# Altium schematic symbol library module.SchLib: 20 symbols
Pins are listed as number, name and electrical type; pins without a type are passive.

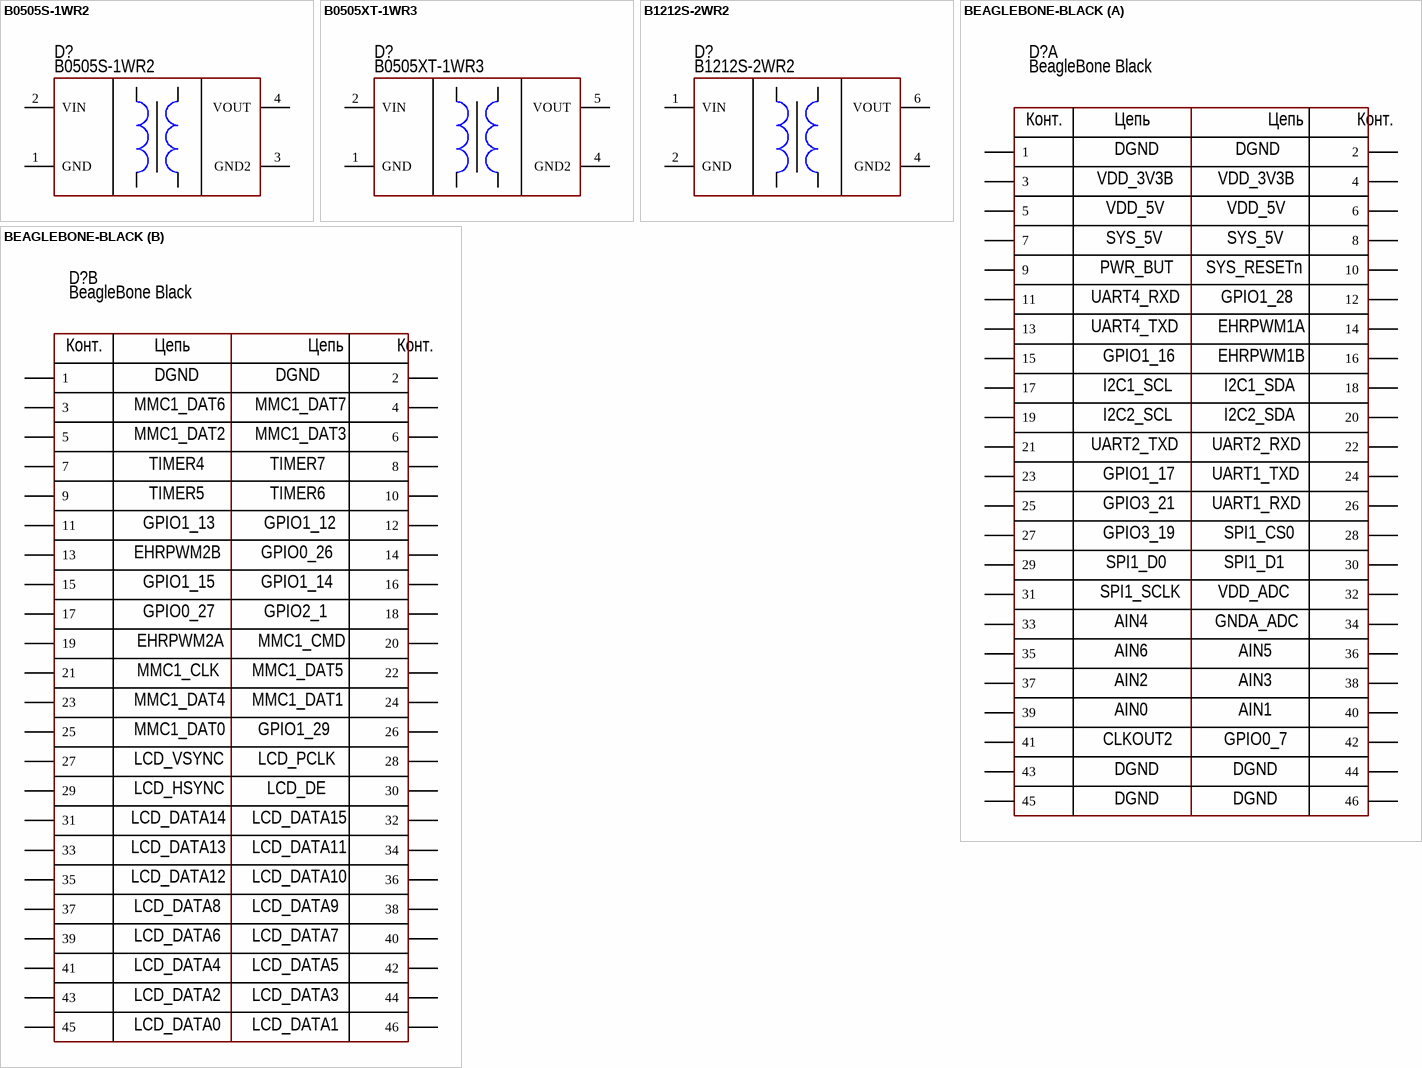
[diagram p0: symbols B0505S-1WR2 to BEAGLEBONE-BLACK]

## B0505S-1WR2
designator D?  PartNumber: B0505S-1WR2
DC/DC converter; Manufacturer: Mornsun; ValueManufacturerPartNumber: DC/DC converter, isolator, 5V 200mA, -40...+105°C, SIP-4; OutputType: isolator; OutputVoltage: 5V 200mA; HelpURL: https://www.chipdip.ru/product/b0505s-1wr2; Package: SIP-4; ComponentType: DC/DC converter; Temperature: -40...+105°C
footprint MOD: SIP-4 (B0505S-1W)
pins: 1 GND (power), 2 VIN (power), 3 GND2 (power), 4 VOUT (power)

## B0505XT-1WR3
designator D?  PartNumber: B0505XT-1WR3
DC/DC converter; Manufacturer: Mornsun; ValueManufacturerPartNumber: DC/DC converter, isolator, 5V 200mA, -40...+105°C, SMD-8; OutputType: isolator; OutputVoltage: 5V 200mA; HelpURL: https://www.mornsun-power.com/html/products/35/0.25-3w-smd.html; Package: SMD-8; ComponentType: DC/DC converter; Temperature: -40...+105°C
footprint MOD: B0505XT-1WR3
pins: 1 GND (power), 2 VIN (power), 4 GND2 (power), 5 VOUT (power)

## B1212S-2WR2
designator D?  PartNumber: B1212S-2WR2
DC/DC converter; Manufacturer: Mornsun; ValueManufacturerPartNumber: DC/DC converter, isolator, 12V 167mA, -40...+105°C, SIP-7; OutputType: isolator; OutputVoltage: 12V 167mA; HelpURL: https://www.compel.ru/infosheet/MORNSUN/B1212S-2WR2; Package: SIP-7; ComponentType: DC/DC converter; Temperature: -40...+105°C
footprint MOD: SIP-7 (B1212S-2W)
pins: 1 VIN (power), 2 GND (power), 4 GND2 (power), 6 VOUT (power)

## BEAGLEBONE-BLACK
designator D?  PartNumber: BeagleBone Black
Single Board Computers; Manufacturer: BeagleBoard; ValueManufacturerPartNumber: Single Board Computers, ARM® Cortex®-A8, SD card, UART, USB, CAN, ADC, PWM, I2C, SPI, GPIO, eCAP, eQEP, -40...+90°C; Core: ARM® Cortex®-A8; TypeInterface: SD card, UART, USB, CAN, ADC, PWM, I2C, SPI, GPIO, eCAP, eQEP; HelpURL: https://www.digikey.com/en/products/detail/beagleboard-by-seeed-studio/102110420/12719590; ComponentType: Single Board Computers; Temperature: -40...+90°C
footprint BEAGLEBONE-BLACK-DIRECT-LP
footprint BEAGLEBONE-BLACK-INVERTED-LP
footprint BEAGLEBONE-BLACK-INVERTED-10mm
part A pins: 1-1 1, 1-2 2, 1-3 3, 1-4 4, 1-5 5, 1-6 6, 1-7 7, 1-8 8, 1-9 9, 1-10 10, 1-11 11, 1-12 12, 1-13 13, 1-14 14, 1-15 15, 1-16 16, 1-17 17, 1-18 18, 1-19 19, 1-20 20, 1-21 21, 1-22 22, 1-23 23, 1-24 24, 1-25 25, 1-26 26, 1-27 27, 1-28 28, 1-29 29, 1-30 30, 1-31 31, 1-32 32, 1-33 33, 1-34 34, 1-35 35, 1-36 36, 1-37 37, 1-38 38, 1-39 39, 1-40 40, 1-41 41, 1-42 42, 1-43 43, 1-44 44, 1-45 45, 1-46 46
part B pins: 2-1 1, 2-2 2, 2-3 3, 2-4 4, 2-5 5, 2-6 6, 2-7 7, 2-8 8, 2-9 9, 2-10 10, 2-11 11, 2-12 12, 2-13 13, 2-14 14, 2-15 15, 2-16 16, 2-17 17, 2-18 18, 2-19 19, 2-20 20, 2-21 21, 2-22 22, 2-23 23, 2-24 24, 2-25 25, 2-26 26, 2-27 27, 2-28 28, 2-29 29, 2-30 30, 2-31 31, 2-32 32, 2-33 33, 2-34 34, 2-35 35, 2-36 36, 2-37 37, 2-38 38, 2-39 39, 2-40 40, 2-41 41, 2-42 42, 2-43 43, 2-44 44, 2-45 45, 2-46 46
part A text: Конт.; Цепь; DGND; VDD_3V3B; VDD_5V; SYS_5V; PWR_BUT; SYS_RESETn; UART4_RXD; GPIO1_28; UART4_TXD; EHRPWM1A; GPIO1_16; EHRPWM1B; I2C1_SCL; I2C1_SDA; I2C2_SCL; I2C2_SDA; UART2_TXD; UART2_RXD; GPIO1_17; UART1_TXD; GPIO3_21; UART1_RXD; GPIO3_19; SPI1_CS0; SPI1_D0; SPI1_D1; SPI1_SCLK; VDD_ADC; AIN4; GNDA_ADC; AIN6; AIN5; AIN2; AIN3; AIN0; AIN1; CLKOUT2; GPIO0_7
part B text: Конт.; Цепь; DGND; MMC1_DAT6; MMC1_DAT7; MMC1_DAT2; MMC1_DAT3; TIMER4; TIMER7; TIMER5; TIMER6; GPIO1_13; GPIO1_12; EHRPWM2B; GPIO0_26; GPIO1_15; GPIO1_14; GPIO0_27; GPIO2_1; EHRPWM2A; MMC1_CMD; MMC1_CLK; MMC1_DAT5; MMC1_DAT4; MMC1_DAT1; MMC1_DAT0; GPIO1_29; LCD_VSYNC; LCD_PCLK; LCD_HSYNC; LCD_DE; LCD_DATA14; LCD_DATA15; LCD_DATA13; LCD_DATA11; LCD_DATA12; LCD_DATA10; LCD_DATA8; LCD_DATA9; LCD_DATA6; LCD_DATA7; LCD_DATA4; LCD_DATA5; LCD_DATA2; LCD_DATA3; LCD_DATA0; LCD_DATA1

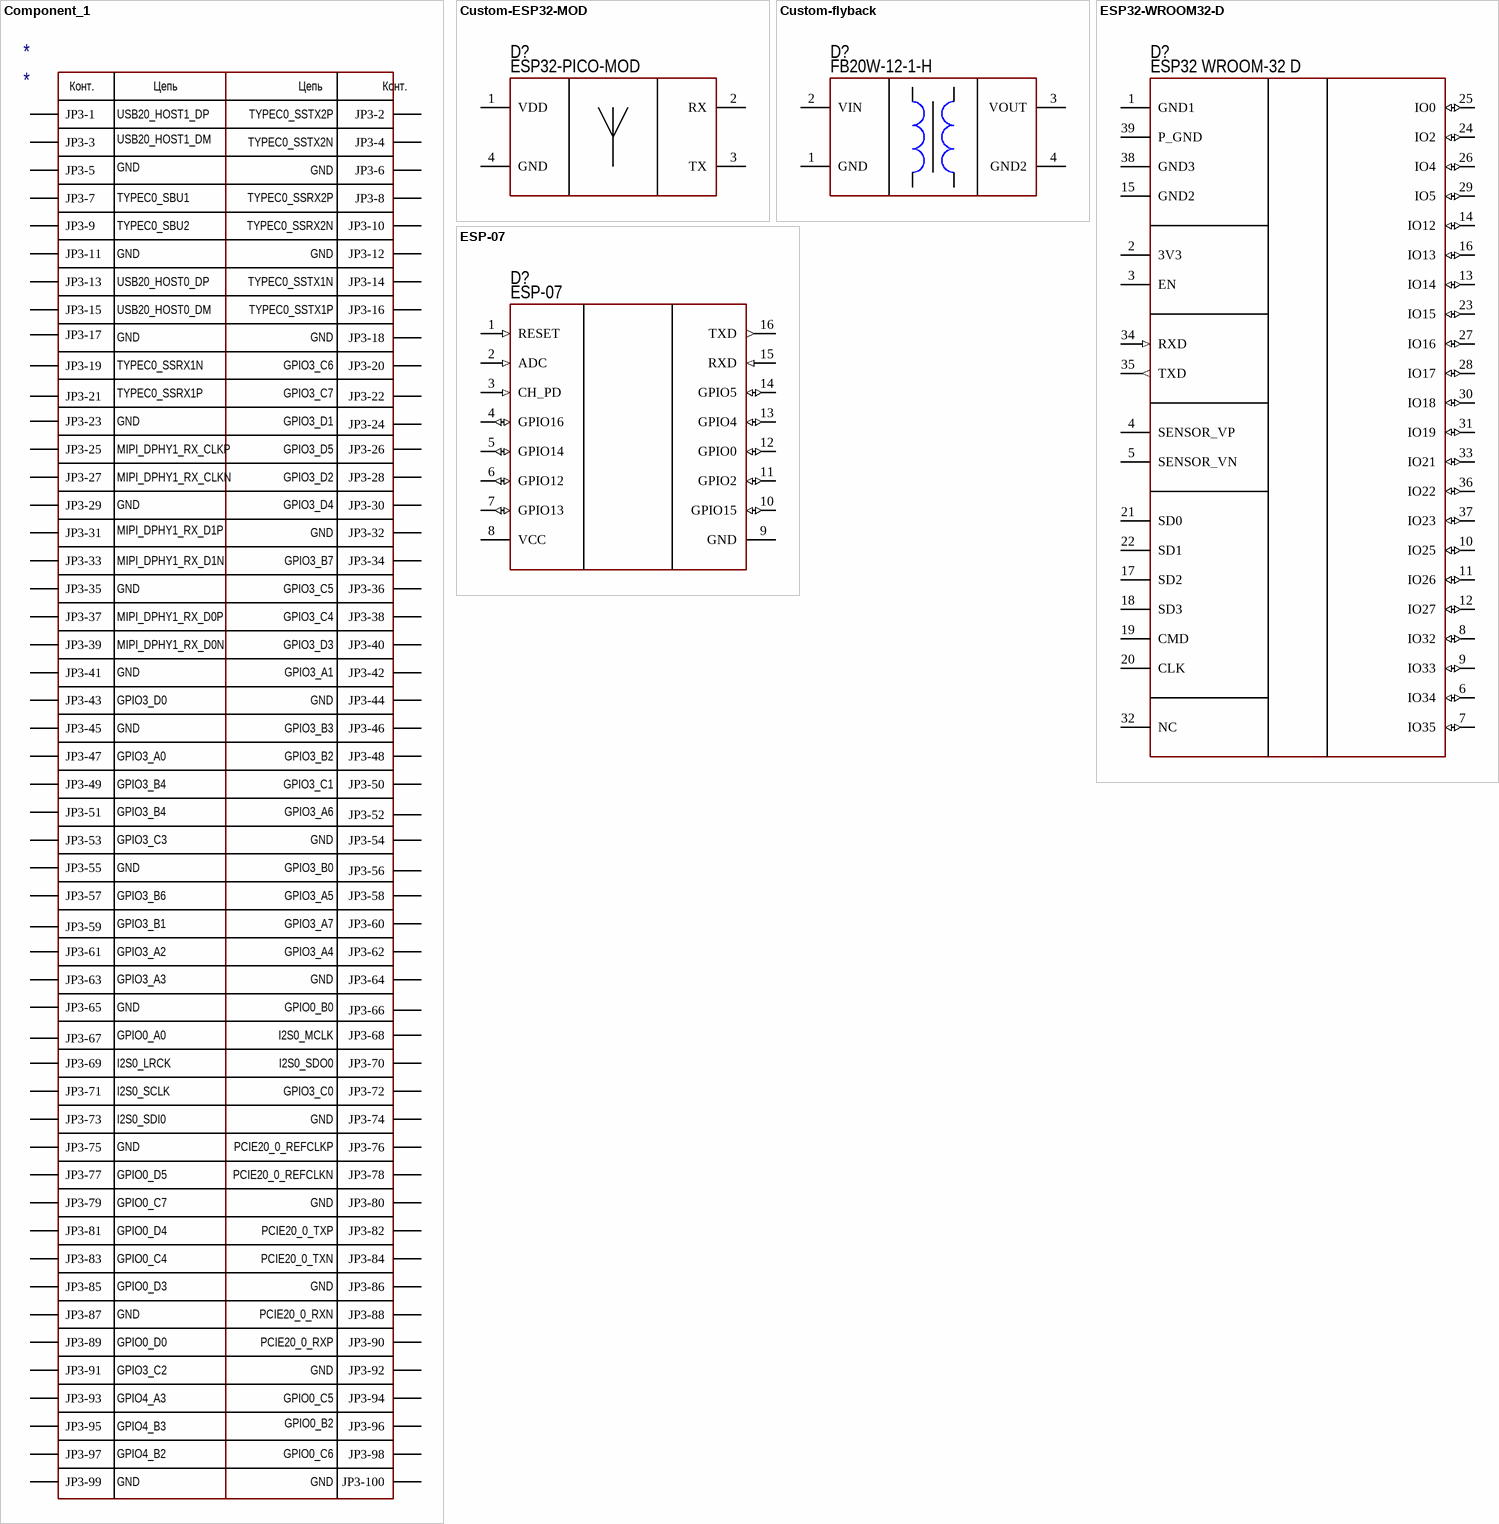
[diagram p1: symbols Component_1 to ESP-07]

## Component_1
designator *
pins: JP3-1, JP3-2, JP3-3, JP3-4, JP3-5, JP3-6, JP3-7, JP3-8, JP3-9, JP3-10, JP3-11, JP3-12, JP3-13, JP3-14, JP3-15, JP3-16, JP3-17, JP3-18, JP3-19, JP3-20, JP3-21, JP3-22, JP3-23, JP3-24, JP3-25, JP3-26, JP3-27, JP3-28, JP3-29, JP3-30, JP3-31, JP3-32, JP3-33, JP3-34, JP3-35, JP3-36, JP3-37, JP3-38, JP3-39, JP3-40, JP3-41, JP3-42, JP3-43, JP3-44, JP3-45, JP3-46, JP3-47, JP3-48, JP3-49, JP3-50, JP3-51, JP3-52, JP3-53, JP3-54, JP3-55, JP3-56, JP3-57, JP3-58, JP3-59, JP3-60, JP3-61, JP3-62, JP3-63, JP3-64, JP3-65, JP3-66, JP3-67, JP3-68, JP3-69, JP3-70, JP3-71, JP3-72, JP3-73, JP3-74, JP3-75, JP3-76, JP3-77, JP3-78, JP3-79, JP3-80, JP3-81, JP3-82, JP3-83, JP3-84, JP3-85, JP3-86, JP3-87, JP3-88, JP3-89, JP3-90, JP3-91, JP3-92, JP3-93, JP3-94, JP3-95, JP3-96, JP3-97, JP3-98, JP3-99, JP3-100
text: Конт.; Цепь; USB20_HOST1_DP; TYPEC0_SSTX2P; USB20_HOST1_DM; TYPEC0_SSTX2N; GND; TYPEC0_SBU1; TYPEC0_SSRX2P; TYPEC0_SBU2; TYPEC0_SSRX2N; USB20_HOST0_DP; TYPEC0_SSTX1N; USB20_HOST0_DM; TYPEC0_SSTX1P; TYPEC0_SSRX1N; GPIO3_C6; TYPEC0_SSRX1P; GPIO3_C7; GPIO3_D1; MIPI_DPHY1_RX_CLKP; GPIO3_D5; MIPI_DPHY1_RX_CLKN; GPIO3_D2; GPIO3_D4; MIPI_DPHY1_RX_D1P; MIPI_DPHY1_RX_D1N; GPIO3_B7; GPIO3_C5; MIPI_DPHY1_RX_D0P; GPIO3_C4; MIPI_DPHY1_RX_D0N; GPIO3_D3; GPIO3_A1; GPIO3_D0; GPIO3_B3; GPIO3_A0; GPIO3_B2; GPIO3_B4; GPIO3_C1; GPIO3_A6; GPIO3_C3; GPIO3_B0; GPIO3_B6; GPIO3_A5; GPIO3_B1; GPIO3_A7; GPIO3_A2; GPIO3_A4; GPIO3_A3; GPIO0_B0; GPIO0_A0; I2S0_MCLK; I2S0_LRCK; I2S0_SDO0; I2S0_SCLK; GPIO3_C0; I2S0_SDI0; PCIE20_0_REFCLKP; GPIO0_D5; PCIE20_0_REFCLKN; GPIO0_C7; GPIO0_D4; PCIE20_0_TXP; GPIO0_C4; PCIE20_0_TXN; GPIO0_D3; PCIE20_0_RXN; GPIO0_D0; PCIE20_0_RXP; GPIO3_C2; GPIO4_A3; GPIO0_C5; GPIO4_B3; GPIO0_B2; GPIO4_B2; GPIO0_C6

## Custom-ESP32-MOD
designator D?  PartNumber: ESP32-PICO-MOD
Wi-Fi module; Manufacturer: Custom; ValueManufacturerPartNumber: Wi-Fi module, 2.4GHz, UART, -40...+105°C, SIP-4; Frequency: 2.4GHz; Interface: UART; HelpURL: https://www.chipdip.ru/product/b0505s-1wr2; Package: SIP-4; ComponentType: Wi-Fi module; Temperature: -40...+105°C
footprint CUSTOM: ESP32-PICO-MOD
pins: 1 VDD (power), 2 RX (power), 3 TX (power), 4 GND (power)

## Custom-flyback
designator D?  PartNumber: FB20W-12-1-H
DC/DC HV flyback; Manufacturer: Custom; ValueManufacturerPartNumber: DC/DC converter, isolator, 12V 1A, -40...+105°C, Custom; OutputType: isolator; OutputVoltage: 12V 1A; HelpURL: https://www.chipdip.ru/product/b0505s-1wr2; Package: Custom; ComponentType: DC/DC converter; Temperature: -40...+105°C
footprint CUSTOM: FB20W-12-1-H
pins: 1 GND (power), 2 VIN (power), 3 VOUT (power), 4 GND2 (power)

## ESP32-WROOM32-D
designator D?  PartNumber: ESP32 WROOM-32 D
Wi-Fi; Manufacturer: Espressif Systems; ValueManufacturerPartNumber: Wi-Fi module, WiFi 802.11 b/g/n (802.11n up to 150 Mbps) / Bluetooth v4.2 BR/EDR and BLE specification, 32 bit, SD card, UART, SPI, SDIO, I2C, LED PWM, Motor PWM, I2S, IR, pulse counter, GPIO, capacitive touch sensor, ADC, DAC, -40...+85°C, 18x25.5x3.1; Core: 32 bit; TypeInterface: SD card, UART, SPI, SDIO, I2C, LED PWM, Motor PWM, I2S, IR, pulse counter, GPIO, capacitive touch sensor, ADC, DAC; TypeStandart: WiFi 802.11 b/g/n (802.11n up to 150 Mbps) / Bluetooth v4.2 BR/EDR and BLE specification; HelpURL: https://www.espressif.com/sites/default/files/documentation/esp32-wroom-32d_esp32-wroom-32u_datasheet_en.pdf; Package: 18x25.5x3.1; ComponentType: Wi-Fi module; Temperature: -40...+85°C
footprint MOD: ESP32-WROOM32-D
pins: 1 GND1 (power), 2 3V3 (power), 3 EN, 4 SENSOR_VP, 5 SENSOR_VN, 6 IO34 (io), 7 IO35 (io), 8 IO32 (io), 9 IO33 (io), 10 IO25 (io), 11 IO26 (io), 12 IO27 (io), 13 IO14 (io), 14 IO12 (io), 15 GND2 (power), 16 IO13 (io), 17 SD2, 18 SD3, 19 CMD, 20 CLK, 21 SD0, 22 SD1, 23 IO15 (io), 24 IO2 (io), 25 IO0 (io), 26 IO4 (io), 27 IO16 (io), 28 IO17 (io), 29 IO5 (io), 30 IO18 (io), 31 IO19 (io), 32 NC, 33 IO21 (io), 34 RXD (in), 35 TXD (out), 36 IO22 (io), 37 IO23 (io), 38 GND3 (power), 39 P_GND (power)

## ESP-07
designator D?  PartNumber: ESP-07
Wi-Fi; Manufacturer: Espressif Systems; ValueManufacturerPartNumber: Wi-Fi module, 802.11 b/g/n, 8 bit, SDIO/SPI/UART, -40...+85°C, 21x16mm; Core: 8 bit; TypeInterface: SDIO/SPI/UART; TypeStandart: 802.11 b/g/n; HelpURL: https://www.chipdip.ru/product/esp-07; Package: 21x16mm; ComponentType: Wi-Fi module; Temperature: -40...+85°C
footprint MOD: ESP-07
pins: 1 RESET (in), 2 ADC (in), 3 CH_PD (in), 4 GPIO16 (io), 5 GPIO14 (io), 6 GPIO12 (io), 7 GPIO13 (io), 8 VCC (power), 9 GND (power), 10 GPIO15 (io), 11 GPIO2 (io), 12 GPIO0 (io), 13 GPIO4 (io), 14 GPIO5 (io), 15 RXD (in), 16 TXD (out)

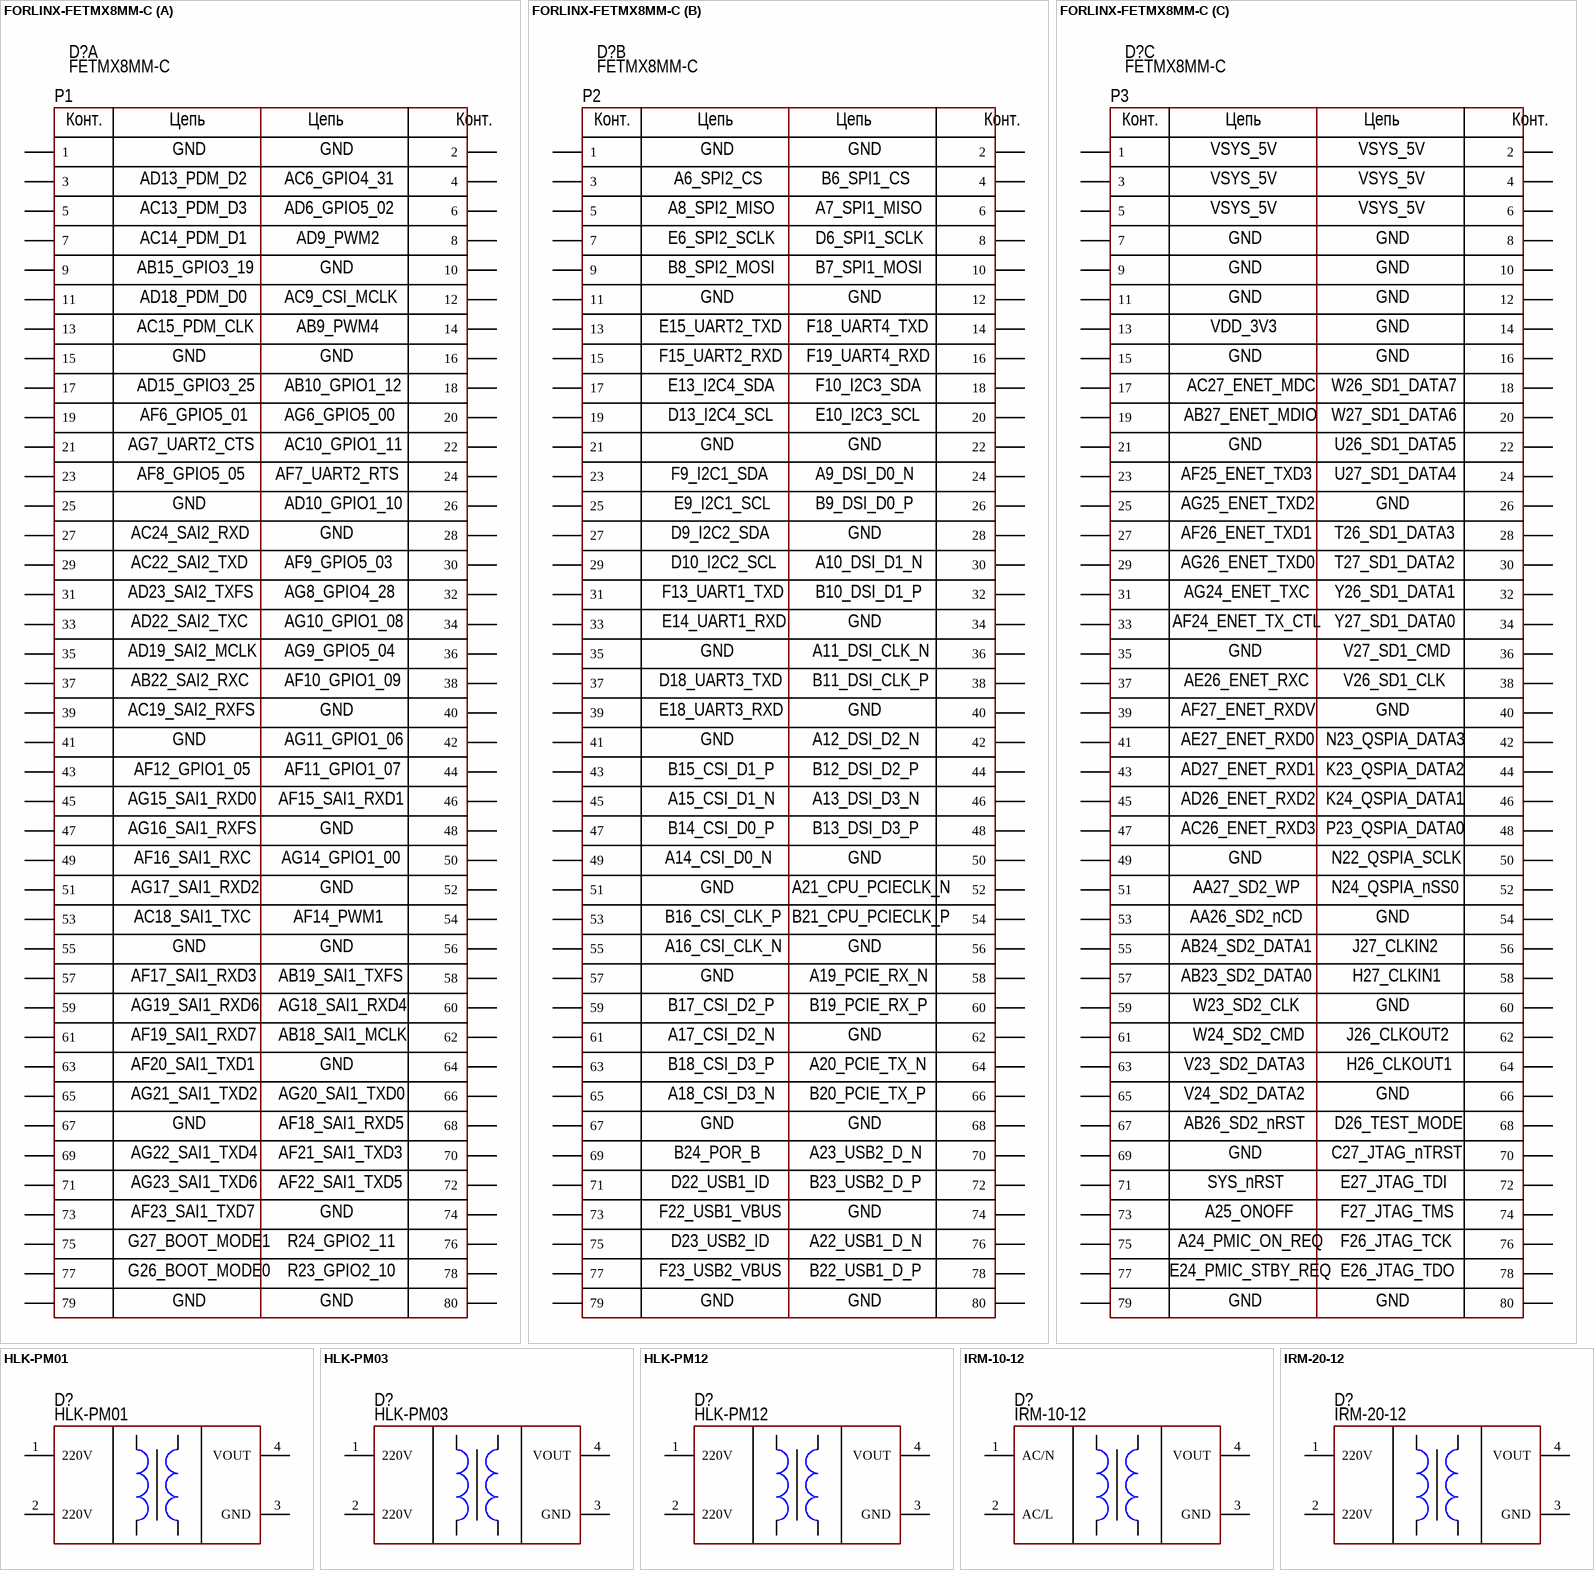
[diagram p2: symbols FORLINX-FETMX8MM-C to IRM-20-12]

## FORLINX-FETMX8MM-C
designator D?  PartNumber: FETMX8MM-C
System On Module; Manufacturer: Forlinx; ValueManufacturerPartNumber: System On Module, ARM® Cortex®-4*Cortex-A53+M4, MIPI-CSI, MIPI-DSI, USB, PCIe, UART, eCSPI, IIC. GE, I2S, AC97, TDM, PDM, SPDIF, 0...+70°C; Core: ARM® Cortex®-4*Cortex-A53+M4; TypeInterface: MIPI-CSI, MIPI-DSI, USB, PCIe, UART, eCSPI, IIC. GE, I2S, AC97, TDM, PDM, SPDIF; HelpURL: https://www.forlinx.net/index.php?m=product&f=view&productID=28; ComponentType: System On Module; Temperature: 0...+70°C
footprint FORLINX-FETMX8MM-C
part A pins: 1-1 1, 1-2 2, 1-3 3, 1-4 4, 1-5 5, 1-6 6, 1-7 7, 1-8 8, 1-9 9, 1-10 10, 1-11 11, 1-12 12, 1-13 13, 1-14 14, 1-15 15, 1-16 16, 1-17 17, 1-18 18, 1-19 19, 1-20 20, 1-21 21, 1-22 22, 1-23 23, 1-24 24, 1-25 25, 1-26 26, 1-27 27, 1-28 28, 1-29 29, 1-30 30, 1-31 31, 1-32 32, 1-33 33, 1-34 34, 1-35 35, 1-36 36, 1-37 37, 1-38 38, 1-39 39, 1-40 40, 1-41 41, 1-42 42, 1-43 43, 1-44 44, 1-45 45, 1-46 46, 1-47 47, 1-48 48, 1-49 49, 1-50 50, 1-51 51, 1-52 52, 1-53 53, 1-54 54, 1-55 55, 1-56 56, 1-57 57, 1-58 58, 1-59 59, 1-60 60, 1-61 61, 1-62 62, 1-63 63, 1-64 64, 1-65 65, 1-66 66, 1-67 67, 1-68 68, 1-69 69, 1-70 70, 1-71 71, 1-72 72, 1-73 73, 1-74 74, 1-75 75, 1-76 76, 1-77 77, 1-78 78, 1-79 79, 1-80 80
part B pins: 2-1 1, 2-2 2, 2-3 3, 2-4 4, 2-5 5, 2-6 6, 2-7 7, 2-8 8, 2-9 9, 2-10 10, 2-11 11, 2-12 12, 2-13 13, 2-14 14, 2-15 15, 2-16 16, 2-17 17, 2-18 18, 2-19 19, 2-20 20, 2-21 21, 2-22 22, 2-23 23, 2-24 24, 2-25 25, 2-26 26, 2-27 27, 2-28 28, 2-29 29, 2-30 30, 2-31 31, 2-32 32, 2-33 33, 2-34 34, 2-35 35, 2-36 36, 2-37 37, 2-38 38, 2-39 39, 2-40 40, 2-41 41, 2-42 42, 2-43 43, 2-44 44, 2-45 45, 2-46 46, 2-47 47, 2-48 48, 2-49 49, 2-50 50, 2-51 51, 2-52 52, 2-53 53, 2-54 54, 2-55 55, 2-56 56, 2-57 57, 2-58 58, 2-59 59, 2-60 60, 2-61 61, 2-62 62, 2-63 63, 2-64 64, 2-65 65, 2-66 66, 2-67 67, 2-68 68, 2-69 69, 2-70 70, 2-71 71, 2-72 72, 2-73 73, 2-74 74, 2-75 75, 2-76 76, 2-77 77, 2-78 78, 2-79 79, 2-80 80
part C pins: 3-1 1, 3-2 2, 3-3 3, 3-4 4, 3-5 5, 3-6 6, 3-7 7, 3-8 8, 3-9 9, 3-10 10, 3-11 11, 3-12 12, 3-13 13, 3-14 14, 3-15 15, 3-16 16, 3-17 17, 3-18 18, 3-19 19, 3-20 20, 3-21 21, 3-22 22, 3-23 23, 3-24 24, 3-25 25, 3-26 26, 3-27 27, 3-28 28, 3-29 29, 3-30 30, 3-31 31, 3-32 32, 3-33 33, 3-34 34, 3-35 35, 3-36 36, 3-37 37, 3-38 38, 3-39 39, 3-40 40, 3-41 41, 3-42 42, 3-43 43, 3-44 44, 3-45 45, 3-46 46, 3-47 47, 3-48 48, 3-49 49, 3-50 50, 3-51 51, 3-52 52, 3-53 53, 3-54 54, 3-55 55, 3-56 56, 3-57 57, 3-58 58, 3-59 59, 3-60 60, 3-61 61, 3-62 62, 3-63 63, 3-64 64, 3-65 65, 3-66 66, 3-67 67, 3-68 68, 3-69 69, 3-70 70, 3-71 71, 3-72 72, 3-73 73, 3-74 74, 3-75 75, 3-76 76, 3-77 77, 3-78 78, 3-79 79, 3-80 80
part A text: P1; Конт.; Цепь; GND; AD13_PDM_D2; AC6_GPIO4_31; AC13_PDM_D3; AD6_GPIO5_02; AC14_PDM_D1; AD9_PWM2; AB15_GPIO3_19; AD18_PDM_D0; AC9_CSI_MCLK; AC15_PDM_CLK; AB9_PWM4; AD15_GPIO3_25; AB10_GPIO1_12; AF6_GPIO5_01; AG6_GPIO5_00; AG7_UART2_CTS; AC10_GPIO1_11; AF8_GPIO5_05; AF7_UART2_RTS; AD10_GPIO1_10; AC24_SAI2_RXD; AC22_SAI2_TXD; AF9_GPIO5_03; AD23_SAI2_TXFS; AG8_GPIO4_28; AD22_SAI2_TXC; AG10_GPIO1_08; AD19_SAI2_MCLK; AG9_GPIO5_04; AB22_SAI2_RXC; AF10_GPIO1_09; AC19_SAI2_RXFS; AG11_GPIO1_06; AF12_GPIO1_05; AF11_GPIO1_07; AG15_SAI1_RXD0; AF15_SAI1_RXD1; AG16_SAI1_RXFS; AF16_SAI1_RXC; AG14_GPIO1_00; AG17_SAI1_RXD2; AC18_SAI1_TXC; AF14_PWM1; AF17_SAI1_RXD3; AB19_SAI1_TXFS; AG19_SAI1_RXD6; AG18_SAI1_RXD4; AF19_SAI1_RXD7; AB18_SAI1_MCLK; AF20_SAI1_TXD1; AG21_SAI1_TXD2; AG20_SAI1_TXD0; AF18_SAI1_RXD5; AG22_SAI1_TXD4; AF21_SAI1_TXD3; AG23_SAI1_TXD6; AF22_SAI1_TXD5; AF23_SAI1_TXD7; G27_BOOT_MODE1; R24_GPIO2_11; G26_BOOT_MODE0; R23_GPIO2_10
part B text: P2; Конт.; Цепь; GND; A6_SPI2_CS; B6_SPI1_CS; A8_SPI2_MISO; A7_SPI1_MISO; E6_SPI2_SCLK; D6_SPI1_SCLK; B8_SPI2_MOSI; B7_SPI1_MOSI; E15_UART2_TXD; F18_UART4_TXD; F15_UART2_RXD; F19_UART4_RXD; E13_I2C4_SDA; F10_I2C3_SDA; D13_I2C4_SCL; E10_I2C3_SCL; F9_I2C1_SDA; A9_DSI_D0_N; E9_I2C1_SCL; B9_DSI_D0_P; D9_I2C2_SDA; D10_I2C2_SCL; A10_DSI_D1_N; F13_UART1_TXD; B10_DSI_D1_P; E14_UART1_RXD; A11_DSI_CLK_N; D18_UART3_TXD; B11_DSI_CLK_P; E18_UART3_RXD; A12_DSI_D2_N; B15_CSI_D1_P; B12_DSI_D2_P; A15_CSI_D1_N; A13_DSI_D3_N; B14_CSI_D0_P; B13_DSI_D3_P; A14_CSI_D0_N; A21_CPU_PCIECLK_N; B16_CSI_CLK_P; B21_CPU_PCIECLK_P; A16_CSI_CLK_N; A19_PCIE_RX_N; B17_CSI_D2_P; B19_PCIE_RX_P; A17_CSI_D2_N; B18_CSI_D3_P; A20_PCIE_TX_N; A18_CSI_D3_N; B20_PCIE_TX_P; B24_POR_B; A23_USB2_D_N; D22_USB1_ID; B23_USB2_D_P; F22_USB1_VBUS; D23_USB2_ID; A22_USB1_D_N; F23_USB2_VBUS; B22_USB1_D_P
part C text: P3; Конт.; Цепь; VSYS_5V; GND; VDD_3V3; AC27_ENET_MDC; W26_SD1_DATA7; AB27_ENET_MDIO; W27_SD1_DATA6; U26_SD1_DATA5; AF25_ENET_TXD3; U27_SD1_DATA4; AG25_ENET_TXD2; AF26_ENET_TXD1; T26_SD1_DATA3; AG26_ENET_TXD0; T27_SD1_DATA2; AG24_ENET_TXC; Y26_SD1_DATA1; AF24_ENET_TX_CTL; Y27_SD1_DATA0; V27_SD1_CMD; AE26_ENET_RXC; V26_SD1_CLK; AF27_ENET_RXDV; AE27_ENET_RXD0; N23_QSPIA_DATA3; AD27_ENET_RXD1; K23_QSPIA_DATA2; AD26_ENET_RXD2; K24_QSPIA_DATA1; AC26_ENET_RXD3; P23_QSPIA_DATA0; N22_QSPIA_SCLK; AA27_SD2_WP; N24_QSPIA_nSS0; AA26_SD2_nCD; AB24_SD2_DATA1; J27_CLKIN2; AB23_SD2_DATA0; H27_CLKIN1; W23_SD2_CLK; W24_SD2_CMD; J26_CLKOUT2; V23_SD2_DATA3; H26_CLKOUT1; V24_SD2_DATA2; AB26_SD2_nRST; D26_TEST_MODE; C27_JTAG_nTRST; SYS_nRST; E27_JTAG_TDI; A25_ONOFF; F27_JTAG_TMS; A24_PMIC_ON_REQ; F26_JTAG_TCK; E24_PMIC_STBY_REQ; E26_JTAG_TDO

## HLK-PM01
designator D?  PartNumber: HLK-PM01
AC/DC converter; Manufacturer: Mornsun; ValueManufacturerPartNumber: AC/DC converter, isolator, 5V 600mA, 100...240VAC, -40...+105°C, 30x20x15mm; OutputType: isolator; OutputVoltage: 5V 600mA; InputVoltage: 100...240VAC; HelpURL: https://ru.aliexpress.com/item/32408565688.html; Package: 30x20x15mm; ComponentType: AC/DC converter; Temperature: -40...+105°C
footprint MOD: HLK-PM01
pins: 1 220V (power), 2 220V (power), 3 GND (power), 4 VOUT (power)

## HLK-PM03
designator D?  PartNumber: HLK-PM03
AC/DC converter; Manufacturer: Mornsun; ValueManufacturerPartNumber: AC/DC converter, isolator, 3V 900mA, 100...240VAC, -40...+105°C, 30x20x15mm; OutputType: isolator; OutputVoltage: 3V 900mA; InputVoltage: 100...240VAC; HelpURL: https://ru.aliexpress.com/item/32408565688.html; Package: 30x20x15mm; ComponentType: AC/DC converter; Temperature: -40...+105°C
footprint MOD: HLK-PM01
pins: 1 220V (power), 2 220V (power), 3 GND (power), 4 VOUT (power)

## HLK-PM12
designator D?  PartNumber: HLK-PM12
AC/DC converter; Manufacturer: Mornsun; ValueManufacturerPartNumber: AC/DC converter, isolator, 12V 250mA, 100...240VAC, -40...+105°C, 30x20x15mm; OutputType: isolator; OutputVoltage: 12V 250mA; InputVoltage: 100...240VAC; HelpURL: https://ru.aliexpress.com/item/32408565688.html; Package: 30x20x15mm; ComponentType: AC/DC converter; Temperature: -40...+105°C
footprint MOD: HLK-PM01
pins: 1 220V (power), 2 220V (power), 3 GND (power), 4 VOUT (power)

## IRM-10-12
designator D?  PartNumber: IRM-10-12
AC/DC converter; Manufacturer: MEAN WELL; ValueManufacturerPartNumber: AC/DC converter, isolator, 12V 850mA, 85...265VAC, -30...+70°C, 4-DIP; OutputType: isolator; OutputVoltage: 12V 850mA; InputVoltage: 85...265VAC; HelpURL: https://www.digikey.com/products/en?keywords=IRM-10-12; Package: 4-DIP; ComponentType: AC/DC converter; Temperature: -30...+70°C
footprint MOD: IRM-10-12
pins: 1 AC/N (power), 2 AC/L (power), 3 GND (power), 4 VOUT (power)

## IRM-20-12
designator D?  PartNumber: IRM-20-12
AC/DC converter; Manufacturer: MEAN WELL; ValueManufacturerPartNumber: AC/DC converter, isolator, 12V 1.8A, 85...265VAC, -30...+70°C, 4-DIP; OutputType: isolator; OutputVoltage: 12V 1.8A; InputVoltage: 85...265VAC; HelpURL: https://www.digikey.com/products/en?keywords=IRM-20-12; Package: 4-DIP; ComponentType: AC/DC converter; Temperature: -30...+70°C
footprint MOD: IRM-20-12
pins: 1 220V (power), 2 220V (power), 3 GND (power), 4 VOUT (power)

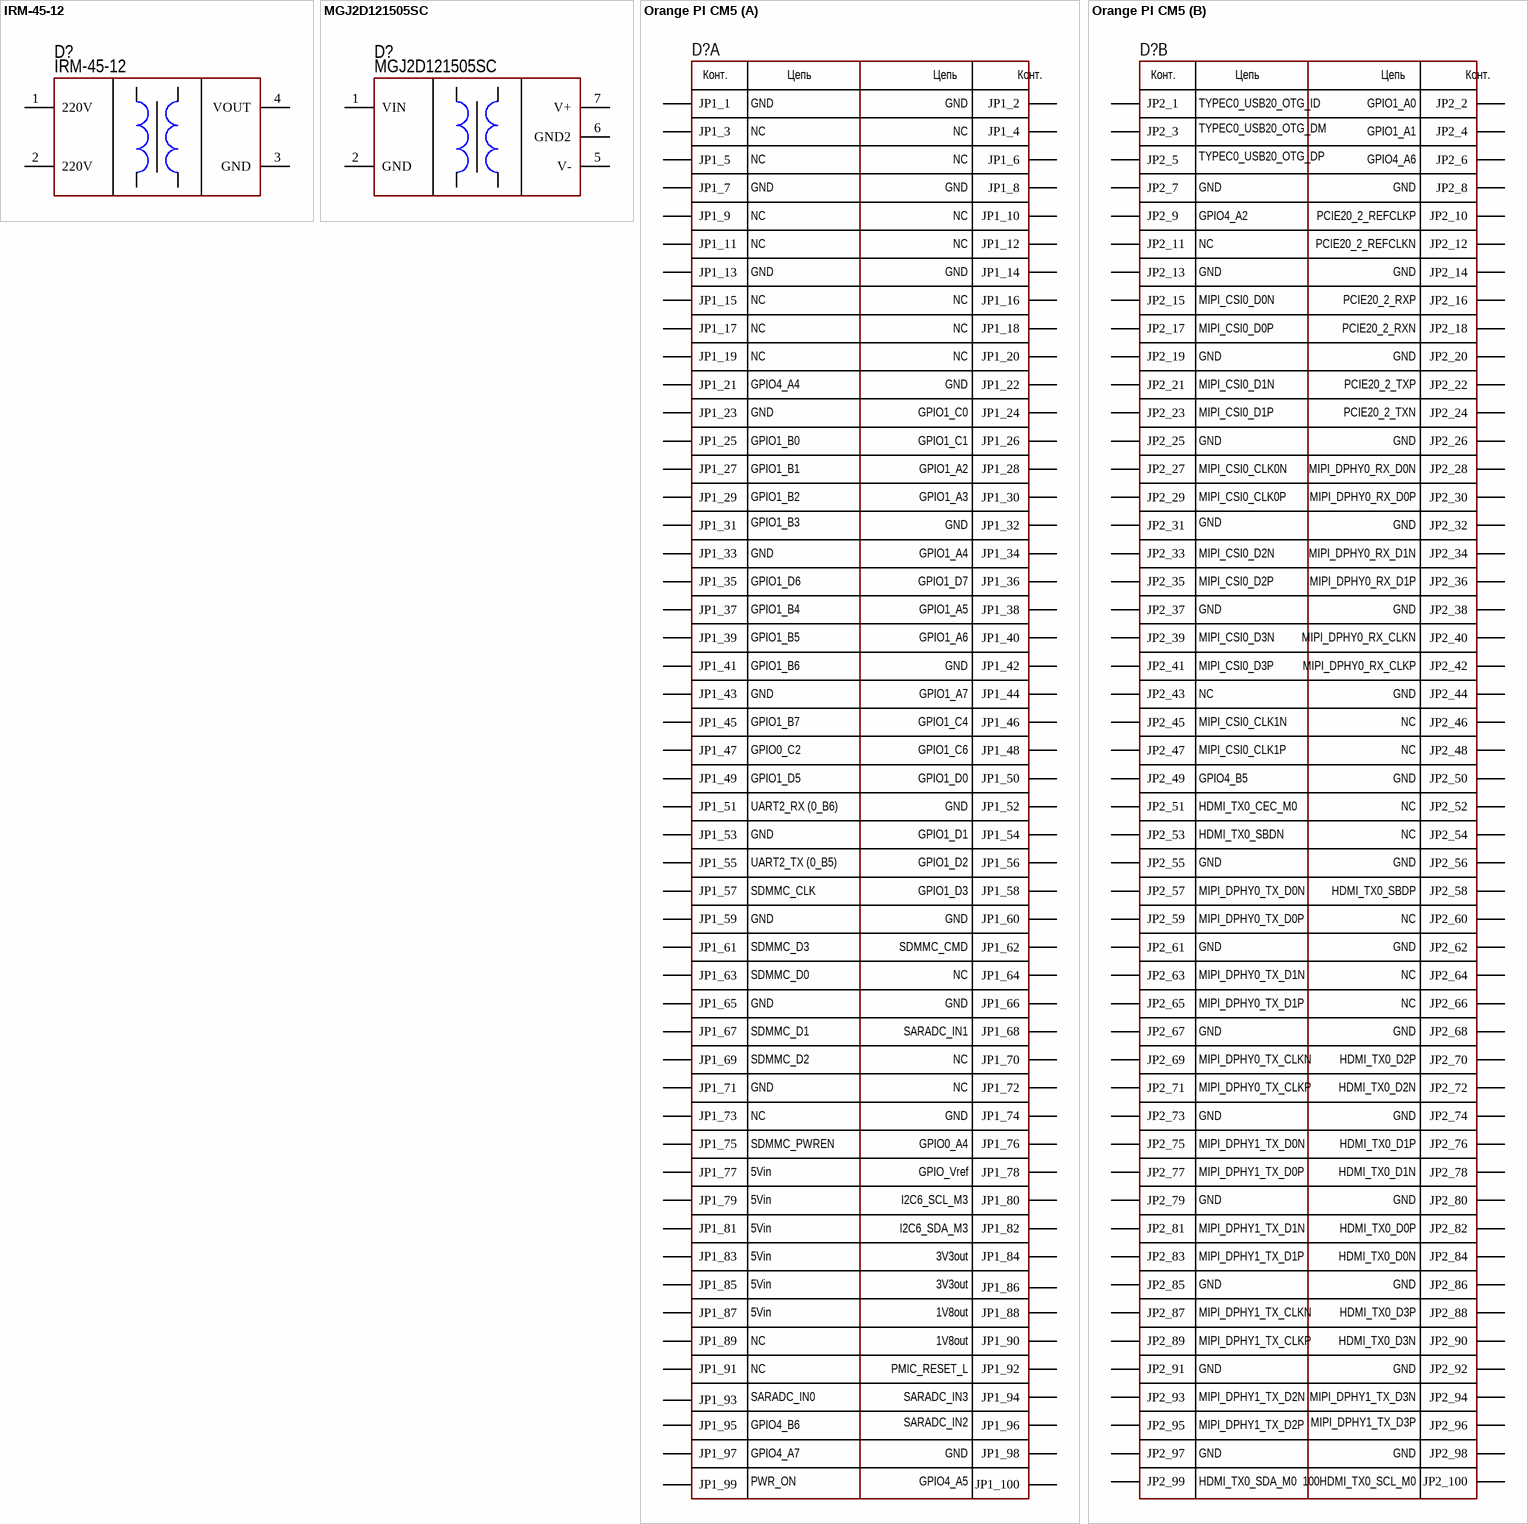
[diagram p3: symbols IRM-45-12 to Orange PI CM5]

## IRM-45-12
designator D?  PartNumber: IRM-45-12
AC/DC converter; Manufacturer: MEAN WELL; ValueManufacturerPartNumber: AC/DC converter, isolator, 12V 3.8A, 85...265VAC, -30...+70°C, 4-DIP; OutputType: isolator; OutputVoltage: 12V 3.8A; InputVoltage: 85...265VAC; HelpURL: https://www.digikey.com/product-detail/en/mean-well-usa-inc/IRM-45-12/1866-3053-ND/7704678; Package: 4-DIP; ComponentType: AC/DC converter; Temperature: -30...+70°C
footprint MOD: IRM-45-12
pins: 1 220V (power), 2 220V (power), 3 GND (power), 4 VOUT (power)

## MGJ2D121505SC
designator D?  PartNumber: MGJ2D121505SC
DC/DC converter; Manufacturer: Murata; ValueManufacturerPartNumber: DC/DC converter, isolator 5200V, +15/-5V 2W, -40...+100°C, SIP-7; OutputType: isolator 5200V; OutputVoltage: +15/-5V 2W; HelpURL: https://www.digikey.com/product-detail/en/murata-power-solutions-inc/MGJ2D121505SC/811-3001-5-ND/4840068; Package: SIP-7; ComponentType: DC/DC converter; Temperature: -40...+100°C
footprint MOD: MGJ2D121505SC (SIP-7)
pins: 1 VIN (power), 2 GND (power), 5 V- (power), 6 GND2 (power), 7 V+ (power)

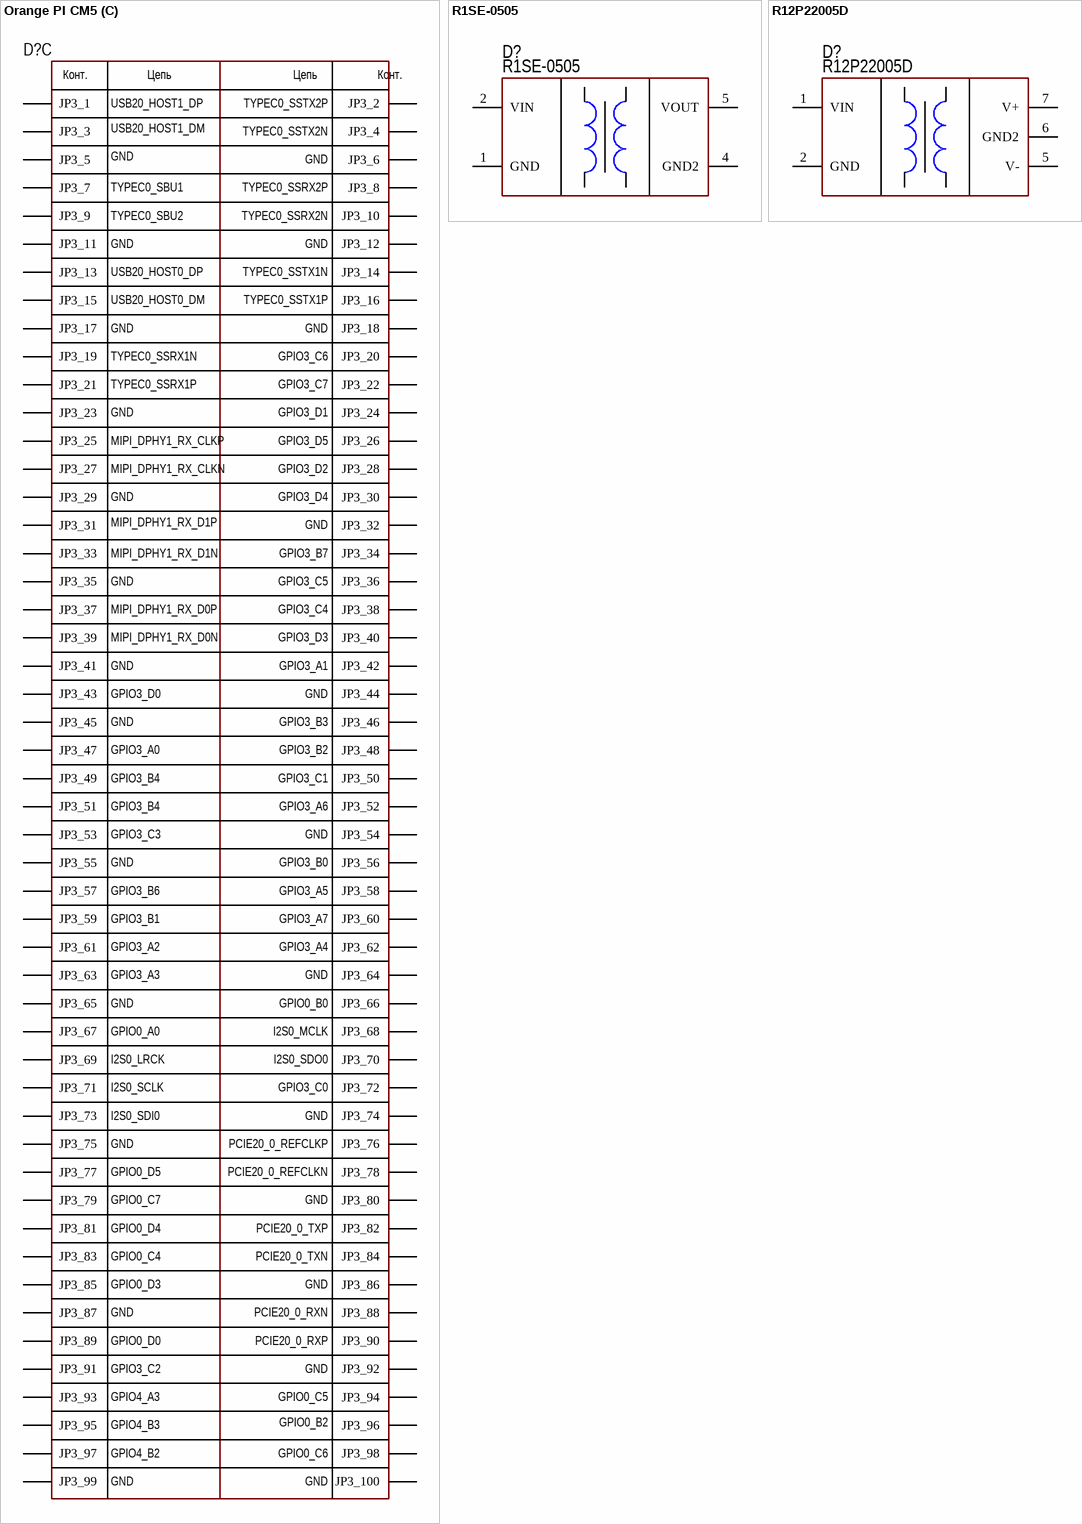
[diagram p4: symbols Orange PI CM5 to R12P22005D]

## Orange PI CM5
designator D?
Single Board Computers; Manufacturer: OrangePI; ValueManufacturerPartNumber: Single Board Computers, , , -40...+90°C; HelpURL: http://www.orangepi.org/html/hardWare/computerAndMicrocontrollers/service-and-support/Orange-Pi-CM5.html; ComponentType: Single Board Computers; Temperature: -40...+90°C
footprint OrangePI CM5
part A pins: JP1_1, JP1_2, JP1_3, JP1_4, JP1_5, JP1_6, JP1_7, JP1_8, JP1_9, JP1_10, JP1_11, JP1_12, JP1_13, JP1_14, JP1_15, JP1_16, JP1_17, JP1_18, JP1_19, JP1_20, JP1_21, JP1_22, JP1_23, JP1_24, JP1_25, JP1_26, JP1_27, JP1_28, JP1_29, JP1_30, JP1_31, JP1_32, JP1_33, JP1_34, JP1_35, JP1_36, JP1_37, JP1_38, JP1_39, JP1_40, JP1_41, JP1_42, JP1_43, JP1_44, JP1_45, JP1_46, JP1_47, JP1_48, JP1_49, JP1_50, JP1_51, JP1_52, JP1_53, JP1_54, JP1_55, JP1_56, JP1_57, JP1_58, JP1_59, JP1_60, JP1_61, JP1_62, JP1_63, JP1_64, JP1_65, JP1_66, JP1_67, JP1_68, JP1_69, JP1_70, JP1_71, JP1_72, JP1_73, JP1_74, JP1_75, JP1_76, JP1_77, JP1_78, JP1_79, JP1_80, JP1_81, JP1_82, JP1_83, JP1_84, JP1_85, JP1_86, JP1_87, JP1_88, JP1_89, JP1_90, JP1_91, JP1_92, JP1_93, JP1_94, JP1_95, JP1_96, JP1_97, JP1_98, JP1_99, JP1_100
part B pins: JP2_1, JP2_2, JP2_3, JP2_4, JP2_5, JP2_6, JP2_7, JP2_8, JP2_9, JP2_10, JP2_11, JP2_12, JP2_13, JP2_14, JP2_15, JP2_16, JP2_17, JP2_18, JP2_19, JP2_20, JP2_21, JP2_22, JP2_23, JP2_24, JP2_25, JP2_26, JP2_27, JP2_28, JP2_29, JP2_30, JP2_31, JP2_32, JP2_33, JP2_34, JP2_35, JP2_36, JP2_37, JP2_38, JP2_39, JP2_40, JP2_41, JP2_42, JP2_43, JP2_44, JP2_45, JP2_46, JP2_47, JP2_48, JP2_49, JP2_50, JP2_51, JP2_52, JP2_53, JP2_54, JP2_55, JP2_56, JP2_57, JP2_58, JP2_59, JP2_60, JP2_61, JP2_62, JP2_63, JP2_64, JP2_65, JP2_66, JP2_67, JP2_68, JP2_69, JP2_70, JP2_71, JP2_72, JP2_73, JP2_74, JP2_75, JP2_76, JP2_77, JP2_78, JP2_79, JP2_80, JP2_81, JP2_82, JP2_83, JP2_84, JP2_85, JP2_86, JP2_87, JP2_88, JP2_89, JP2_90, JP2_91, JP2_92, JP2_93, JP2_94, JP2_95, JP2_96, JP2_97, JP2_98, JP2_99, JP2_100
part C pins: JP3_1, JP3_2, JP3_3, JP3_4, JP3_5, JP3_6, JP3_7, JP3_8, JP3_9, JP3_10, JP3_11, JP3_12, JP3_13, JP3_14, JP3_15, JP3_16, JP3_17, JP3_18, JP3_19, JP3_20, JP3_21, JP3_22, JP3_23, JP3_24, JP3_25, JP3_26, JP3_27, JP3_28, JP3_29, JP3_30, JP3_31, JP3_32, JP3_33, JP3_34, JP3_35, JP3_36, JP3_37, JP3_38, JP3_39, JP3_40, JP3_41, JP3_42, JP3_43, JP3_44, JP3_45, JP3_46, JP3_47, JP3_48, JP3_49, JP3_50, JP3_51, JP3_52, JP3_53, JP3_54, JP3_55, JP3_56, JP3_57, JP3_58, JP3_59, JP3_60, JP3_61, JP3_62, JP3_63, JP3_64, JP3_65, JP3_66, JP3_67, JP3_68, JP3_69, JP3_70, JP3_71, JP3_72, JP3_73, JP3_74, JP3_75, JP3_76, JP3_77, JP3_78, JP3_79, JP3_80, JP3_81, JP3_82, JP3_83, JP3_84, JP3_85, JP3_86, JP3_87, JP3_88, JP3_89, JP3_90, JP3_91, JP3_92, JP3_93, JP3_94, JP3_95, JP3_96, JP3_97, JP3_98, JP3_99, JP3_100
part A text: Конт.; Цепь; GND; NC; GPIO4_A4; GPIO1_C0; GPIO1_B0; GPIO1_C1; GPIO1_B1; GPIO1_A2; GPIO1_B2; GPIO1_A3; GPIO1_B3; GPIO1_A4; GPIO1_D6; GPIO1_D7; GPIO1_B4; GPIO1_A5; GPIO1_B5; GPIO1_A6; GPIO1_B6; GPIO1_A7; GPIO1_B7; GPIO1_C4; GPIO0_C2; GPIO1_C6; GPIO1_D5; GPIO1_D0; UART2_RX (0_B6); GPIO1_D1; UART2_TX (0_B5); GPIO1_D2; SDMMC_CLK; GPIO1_D3; SDMMC_D3; SDMMC_CMD; SDMMC_D0; SDMMC_D1; SARADC_IN1; SDMMC_D2; SDMMC_PWREN; GPIO0_A4; 5Vin; GPIO_Vref; I2C6_SCL_M3; I2C6_SDA_M3; 3V3out; 1V8out; PMIC_RESET_L; SARADC_IN0; SARADC_IN3; GPIO4_B6; SARADC_IN2; GPIO4_A7; PWR_ON; GPIO4_A5
part B text: Конт.; Цепь; TYPEC0_USB20_OTG_ID; GPIO1_A0; TYPEC0_USB20_OTG_DM; GPIO1_A1; TYPEC0_USB20_OTG_DP; GPIO4_A6; GND; GPIO4_A2; PCIE20_2_REFCLKP; NC; PCIE20_2_REFCLKN; MIPI_CSI0_D0N; PCIE20_2_RXP; MIPI_CSI0_D0P; PCIE20_2_RXN; MIPI_CSI0_D1N; PCIE20_2_TXP; MIPI_CSI0_D1P; PCIE20_2_TXN; MIPI_CSI0_CLK0N; MIPI_DPHY0_RX_D0N; MIPI_CSI0_CLK0P; MIPI_DPHY0_RX_D0P; MIPI_CSI0_D2N; MIPI_DPHY0_RX_D1N; MIPI_CSI0_D2P; MIPI_DPHY0_RX_D1P; MIPI_CSI0_D3N; MIPI_DPHY0_RX_CLKN; MIPI_CSI0_D3P; MIPI_DPHY0_RX_CLKP; MIPI_CSI0_CLK1N; MIPI_CSI0_CLK1P; GPIO4_B5; HDMI_TX0_CEC_M0; HDMI_TX0_SBDN; MIPI_DPHY0_TX_D0N; HDMI_TX0_SBDP; MIPI_DPHY0_TX_D0P; MIPI_DPHY0_TX_D1N; MIPI_DPHY0_TX_D1P; MIPI_DPHY0_TX_CLKN; HDMI_TX0_D2P; MIPI_DPHY0_TX_CLKP; HDMI_TX0_D2N; MIPI_DPHY1_TX_D0N; HDMI_TX0_D1P; MIPI_DPHY1_TX_D0P; HDMI_TX0_D1N; MIPI_DPHY1_TX_D1N; HDMI_TX0_D0P; MIPI_DPHY1_TX_D1P; HDMI_TX0_D0N; MIPI_DPHY1_TX_CLKN; HDMI_TX0_D3P; MIPI_DPHY1_TX_CLKP; HDMI_TX0_D3N; MIPI_DPHY1_TX_D2N; MIPI_DPHY1_TX_D3N; MIPI_DPHY1_TX_D2P; MIPI_DPHY1_TX_D3P; HDMI_TX0_SDA_M0; 100HDMI_TX0_SCL_M0
part C text: Конт.; Цепь; USB20_HOST1_DP; TYPEC0_SSTX2P; USB20_HOST1_DM; TYPEC0_SSTX2N; GND; TYPEC0_SBU1; TYPEC0_SSRX2P; TYPEC0_SBU2; TYPEC0_SSRX2N; USB20_HOST0_DP; TYPEC0_SSTX1N; USB20_HOST0_DM; TYPEC0_SSTX1P; TYPEC0_SSRX1N; GPIO3_C6; TYPEC0_SSRX1P; GPIO3_C7; GPIO3_D1; MIPI_DPHY1_RX_CLKP; GPIO3_D5; MIPI_DPHY1_RX_CLKN; GPIO3_D2; GPIO3_D4; MIPI_DPHY1_RX_D1P; MIPI_DPHY1_RX_D1N; GPIO3_B7; GPIO3_C5; MIPI_DPHY1_RX_D0P; GPIO3_C4; MIPI_DPHY1_RX_D0N; GPIO3_D3; GPIO3_A1; GPIO3_D0; GPIO3_B3; GPIO3_A0; GPIO3_B2; GPIO3_B4; GPIO3_C1; GPIO3_A6; GPIO3_C3; GPIO3_B0; GPIO3_B6; GPIO3_A5; GPIO3_B1; GPIO3_A7; GPIO3_A2; GPIO3_A4; GPIO3_A3; GPIO0_B0; GPIO0_A0; I2S0_MCLK; I2S0_LRCK; I2S0_SDO0; I2S0_SCLK; GPIO3_C0; I2S0_SDI0; PCIE20_0_REFCLKP; GPIO0_D5; PCIE20_0_REFCLKN; GPIO0_C7; GPIO0_D4; PCIE20_0_TXP; GPIO0_C4; PCIE20_0_TXN; GPIO0_D3; PCIE20_0_RXN; GPIO0_D0; PCIE20_0_RXP; GPIO3_C2; GPIO4_A3; GPIO0_C5; GPIO4_B3; GPIO0_B2; GPIO4_B2; GPIO0_C6

## R1SE-0505
designator D?  PartNumber: R1SE-0505
DC/DC converter; Manufacturer: Recom Power; ValueManufacturerPartNumber: DC/DC converter, isolator, 5V 200mA, -40...+85°C, 8-SMD; OutputType: isolator; OutputVoltage: 5V 200mA; HelpURL: https://www.digikey.com/product-detail/en/recom-power/R1SE-0505/945-3306-ND/4503711; Package: 8-SMD; ComponentType: DC/DC converter; Temperature: -40...+85°C
footprint MOD: R1SE
pins: 1 GND (power), 2 VIN (power), 4 GND2 (power), 5 VOUT (power)

## R12P22005D
designator D?  PartNumber: R12P22005D
DC/DC converter; Manufacturer: Recom Power; ValueManufacturerPartNumber: DC/DC converter, isolator, +20/-5V 2W, -40...+105°C, SIP-7; OutputType: isolator; OutputVoltage: +20/-5V 2W; HelpURL: https://www.digikey.com/product-detail/en/recom-power/R12P22005D/945-3056-ND/5881287; Package: SIP-7; ComponentType: DC/DC converter; Temperature: -40...+105°C
footprint MOD: R12P22005D
pins: 1 VIN (power), 2 GND (power), 5 V- (power), 6 GND2 (power), 7 V+ (power)